# Altium schematic symbol library cap.SchLib: 1 symbol
Pins are listed as number, name and electrical type; pins without a type are passive.

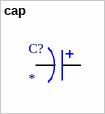
[diagram p0: symbol cap]

## cap
designator C?
footprint cap_by
footprint cap_fly
pins: 1, 2